# Altium schematic symbol library Tiky_IPS_CT.SchLib: 4 symbols
Pins are listed as number, name and electrical type; pins without a type are passive.

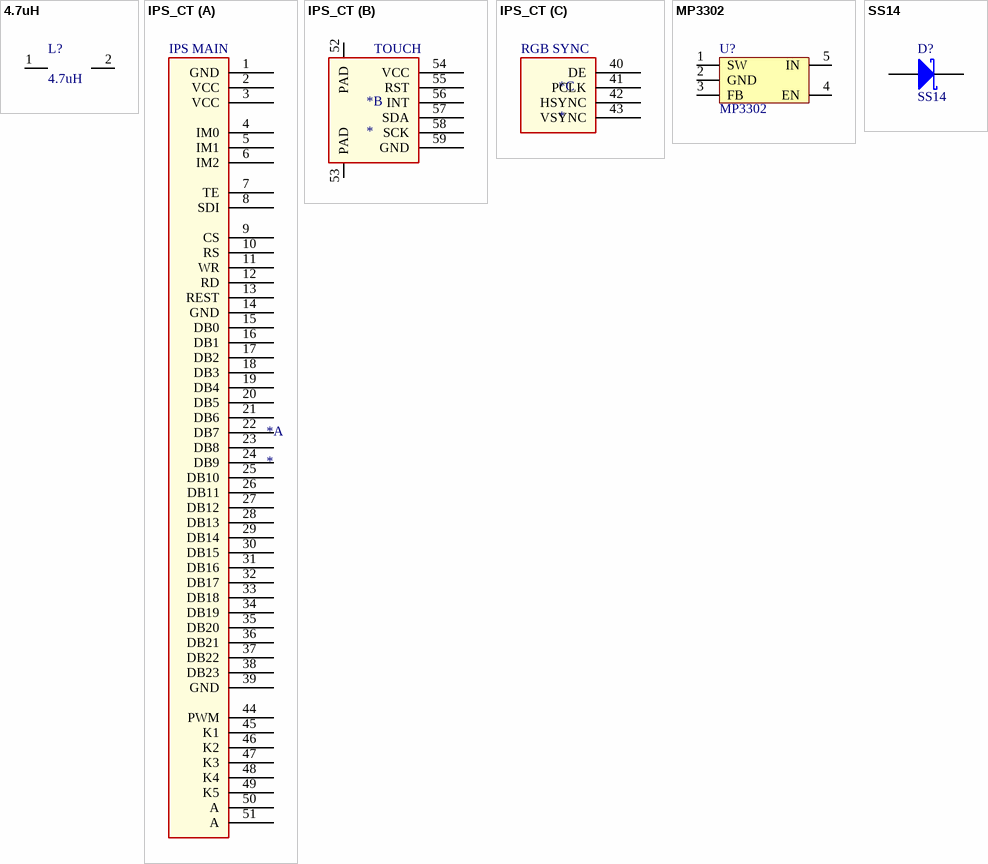
[diagram p0: symbols 4.7uH to SS14]

## 4.7uH
designator L?
footprint L453226
pins: 1, 2

## IPS_CT
designator *
footprint IPS_CT
part A pins: 1 GND, 2 VCC, 3 VCC, 4 IM0, 5 IM1, 6 IM2, 7 TE, 8 SDI, 9 CS, 10 RS, 11 WR, 12 RD, 13 REST, 14 GND, 15 DB0, 16 DB1, 17 DB2, 18 DB3, 19 DB4, 20 DB5, 21 DB6, 22 DB7, 23 DB8, 24 DB9, 25 DB10, 26 DB11, 27 DB12, 28 DB13, 29 DB14, 30 DB15, 31 DB16, 32 DB17, 33 DB18, 34 DB19, 35 DB20, 36 DB21, 37 DB22, 38 DB23, 39 GND, 44 PWM, 45 K1, 46 K2, 47 K3, 48 K4, 49 K5, 50 A, 51 A
part B pins: 52 PAD, 53 PAD, 54 VCC, 55 RST, 56 INT, 57 SDA, 58 SCK, 59 GND
part C pins: 40 DE, 41 PCLK, 42 HSYNC, 43 VSYNC
part A text: IPS MAIN
part B text: TOUCH
part C text: RGB SYNC

## MP3302
designator U?
footprint SOT23-5
pins: 1 SW, 2 GND, 3 FB, 4 EN, 5 IN

## SS14
designator D?
Published: 8-Jun-2000; LatestRevisionDate: 17-Jul-2002; LatestRevisionNote: Re-released for DXP Platform.; PackageReference: SMB; Publisher: Altium Limited; PackageDescription: DO-214-AA/SMB; 2 C-Bend Leads; Body 5.3 x 3.6 mm, inc. leads (LxW); Code_JEDEC: DO-214-AA
footprint SOD123
pins: 1 A, 2 K